# EAGLE library part ESP8266 (library zkseagle)
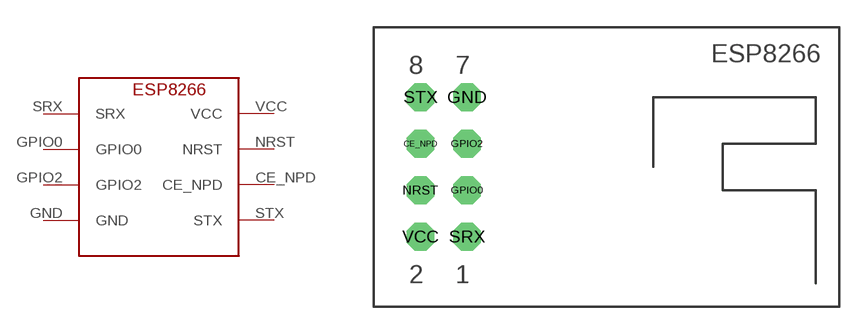
[diagram p7: symbol with the pads of ESP8266_P; footprint ESP8266_P]

Designator prefix -

## ESP8266  [ESP8266_P]
CE_NPD  CE_NPD
GND  GND  pwr
GPIO0  GPIO0
GPIO2  GPIO2
NRST  NRST  in
SRX  SRX  in
STX  STX  out
VCC  VCC  pwr

## Footprint ESP8266_P (pad centres in mm)
drill 1 pad 1.524 octagon: CE_NPD -2.54,5.08; GND 0,7.62; GPIO0 0,2.54; GPIO2 0,5.08; NRST -2.54,2.54; SRX 0,0; STX -2.54,7.62; VCC -2.54,0